# EAGLE library part 23C2100 (library ML497A)
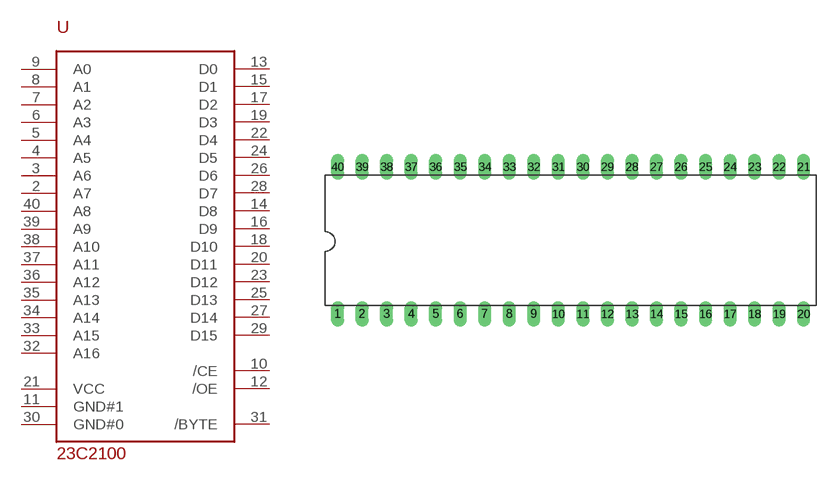
[diagram p4: symbol with the pads of DIL-40; footprint DIL-40]

Designator prefix -

## 23C2100  [DIL-40]
2  A7
3  A6
4  A5
5  A4
6  A3
7  A2
8  A1
9  A0
10  /CE
11  GND#1
12  /OE
13  D0
14  D8
15  D1
16  D9
17  D2
18  D10
19  D3
20  D11
21  VCC
22  D4
23  D12
24  D5
25  D13
26  D6
27  D14
28  D7
29  D15
30  GND#0
31  /BYTE
32  A16
33  A15
34  A14
35  A13
36  A12
37  A11
38  A10
39  A9
40  A8

## Footprint DIL-40 (pad centres in mm)
drill 0.813 long: 1 -22.86,-7.62; 2 -20.32,-7.62; 3 -17.78,-7.62; 4 -15.24,-7.62; 5 -12.7,-7.62; 6 -10.16,-7.62; 7 -7.62,-7.62; 8 -5.08,-7.62; 9 -2.54,-7.62; 10 0,-7.62; 11 2.54,-7.62; 12 5.08,-7.62; 13 7.62,-7.62; 14 10.16,-7.62; 15 12.7,-7.62; 16 15.24,-7.62; 17 17.78,-7.62; 18 20.32,-7.62; 19 22.86,-7.62; 20 25.4,-7.62; 21 25.4,7.62; 22 22.86,7.62; 23 20.32,7.62; 24 17.78,7.62; 25 15.24,7.62; 26 12.7,7.62; 27 10.16,7.62; 28 7.62,7.62; 29 5.08,7.62; 30 2.54,7.62; 31 0,7.62; 32 -2.54,7.62; 33 -5.08,7.62; 34 -7.62,7.62; 35 -10.16,7.62; 36 -12.7,7.62; 37 -15.24,7.62; 38 -17.78,7.62; 39 -20.32,7.62; 40 -22.86,7.62